# Altium integrated library Molex Modular Jack Bottom.IntLib: 5 symbols
Pins are listed as number, name and electrical type; pins without a type are passive.

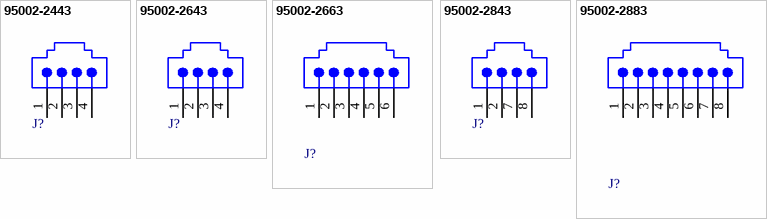
[diagram p0: symbols 95002-2443 to 95002-2883]

## 95002-2443
designator J?
Bottom Entry, Low Profile, PCB Jack; Ports: 1; Positions/Loaded: Port1 - 4/4; PerformanceCategory: 3; PCB_Mounting: Thru-Hole; DrillSize: Nominal, Rounded to nearest 0.05mm; PCB_Layout: Complies with Manufacturer's Recommendation.; Published: 25-Jun-2002; DatasheetDocument: 9-Nov-2001; PackageDocument: 09-Nov-2001; PackageReference: 95002-2443; Publisher: Altium Limited; ComponentLink1Description: Manufacturer Link; ComponentLink1URL: http://www.molex.com/; ComponentLink2Description: Datasheet; ComponentLink2URL: http://www.molex.com/cmc_upload/common_files/1222003_mx95002.pdf; ComponentLink3Description: Iges Model; ComponentLink3URL: http://www.molex.com/pdm_docs/igs/95002-2443_igs.zip
footprint 95002-2443 (Connector; PCB Jack, Thru-Hole; 1-Port, 4 Positions, 4 Loaded; Unshielded without Lightpipes; Bottom)
signal-integrity model Modular Jack
pins: 1, 2, 3, 4

## 95002-2643
designator J?
Bottom Entry, Low Profile, PCB Jack; Ports: 1; Positions/Loaded: Port1 - 6/4; PerformanceCategory: 3; PCB_Mounting: Thru-Hole; DrillSize: Nominal, Rounded to nearest 0.05mm; PCB_Layout: Complies with Manufacturer's Recommendation.; Published: 25-Jun-2002; DatasheetDocument: 9-Nov-2001; PackageDocument: 09-Nov-2001; PackageReference: 95002-2643; Publisher: Altium Limited; ComponentLink1Description: Manufacturer Link; ComponentLink1URL: http://www.molex.com/; ComponentLink2Description: Datasheet; ComponentLink2URL: http://www.molex.com/cmc_upload/common_files/1222003_mx95002.pdf; ComponentLink3Description: Iges Model; ComponentLink3URL: http://www.molex.com/pdm_docs/igs/95002-2443_igs.zip
footprint 95002-2643 (Connector; PCB Jack, Thru-Hole; 1-Port, 6 Positions, 4 Loaded; Unshielded without Lightpipes; Bottom)
signal-integrity model Modular Jack
pins: 1, 2, 3, 4

## 95002-2663
designator J?
Bottom Entry, Low Profile, PCB Jack; Ports: 1; Positions/Loaded: Port1 - 6/6; PerformanceCategory: 3; PCB_Mounting: Thru-Hole; DrillSize: Nominal, Rounded to nearest 0.05mm; PCB_Layout: Complies with Manufacturer's Recommendation.; Published: 25-Jun-2002; DatasheetDocument: 9-Nov-2001; PackageDocument: 09-Nov-2001; PackageReference: 95002-2663; Publisher: Altium Limited; ComponentLink1Description: Manufacturer Link; ComponentLink1URL: http://www.molex.com/; ComponentLink2Description: Datasheet; ComponentLink2URL: http://www.molex.com/cmc_upload/common_files/1222003_mx95002.pdf; ComponentLink3Description: Iges Model; ComponentLink3URL: http://www.molex.com/pdm_docs/igs/95002-2443_igs.zip
footprint 95002-2663 (Connector; PCB Jack, Thru-Hole; 1-Port, 6 Positions, 6 Loaded; Unshielded without Lightpipes; Bottom)
signal-integrity model Modular Jack
pins: 1, 2, 3, 4, 5, 6

## 95002-2843
designator J?
Bottom Entry, Low Profile, PCB Jack; Ports: 1; Positions/Loaded: Port1 - 8/4; PerformanceCategory: 3; PCB_Mounting: Thru-Hole; PositionsLoaded: 1, 2, 7 and 8.; DrillSize: Nominal, Rounded to nearest 0.05mm; PCB_Layout: Complies with Manufacturer's Recommendation.; Published: 25-Jun-2002; DatasheetDocument: 9-Nov-2001; PackageDocument: 09-Nov-2001; PackageReference: 95002-2843; Publisher: Altium Limited; ComponentLink1Description: Manufacturer Link; ComponentLink1URL: http://www.molex.com/; ComponentLink2Description: Datasheet; ComponentLink2URL: http://www.molex.com/cmc_upload/common_files/1222003_mx95002.pdf; ComponentLink3Description: Iges Model; ComponentLink3URL: http://www.molex.com/pdm_docs/igs/95002-2443_igs.zip
footprint 95002-2843 (Connector; PCB Jack, Thru-Hole; 1-Port, 8 Positions, 4 Loaded; Unshielded without Lightpipes; Bottom)
signal-integrity model Modular Jack
pins: 1, 2, 7, 8

## 95002-2883
designator J?
Bottom Entry, Low Profile, PCB Jack; Ports: 1; Positions/Loaded: Port1 - 8/8; PerformanceCategory: 3; PCB_Mounting: Thru-Hole; DrillSize: Nominal, Rounded to nearest 0.05mm; PCB_Layout: Complies with Manufacturer's Recommendation.; Published: 25-Jun-2002; DatasheetDocument: 9-Nov-2001; PackageDocument: 09-Nov-2001; PackageReference: 95002-2883; Publisher: Altium Limited; ComponentLink1Description: Manufacturer Link; ComponentLink1URL: http://www.molex.com/; ComponentLink2Description: Datasheet; ComponentLink2URL: http://www.molex.com/cmc_upload/common_files/1222003_mx95002.pdf; ComponentLink3Description: Iges Model; ComponentLink3URL: http://www.molex.com/pdm_docs/igs/95002-2443_igs.zip
footprint 95002-2883 (Connector; PCB Jack, Thru-Hole; 1-Port, 8 Positions, 8 Loaded; Unshielded without Lightpipes; Bottom)
signal-integrity model Modular Jack
pins: 1, 2, 3, 4, 5, 6, 7, 8